# Altium footprint library alexsb.PCBLIB: 444 footprints (part 23 of 28)
Each footprint in its own frame and in the unit in brackets; x right, y up, seen from the top. Pads: shape width x height; smd on the part's side, far side on the other; paste and mask are expansions set on the pad; w line width, h text height; cw(c..) or ccw(c..) is an arc to the next point about the centre after c.
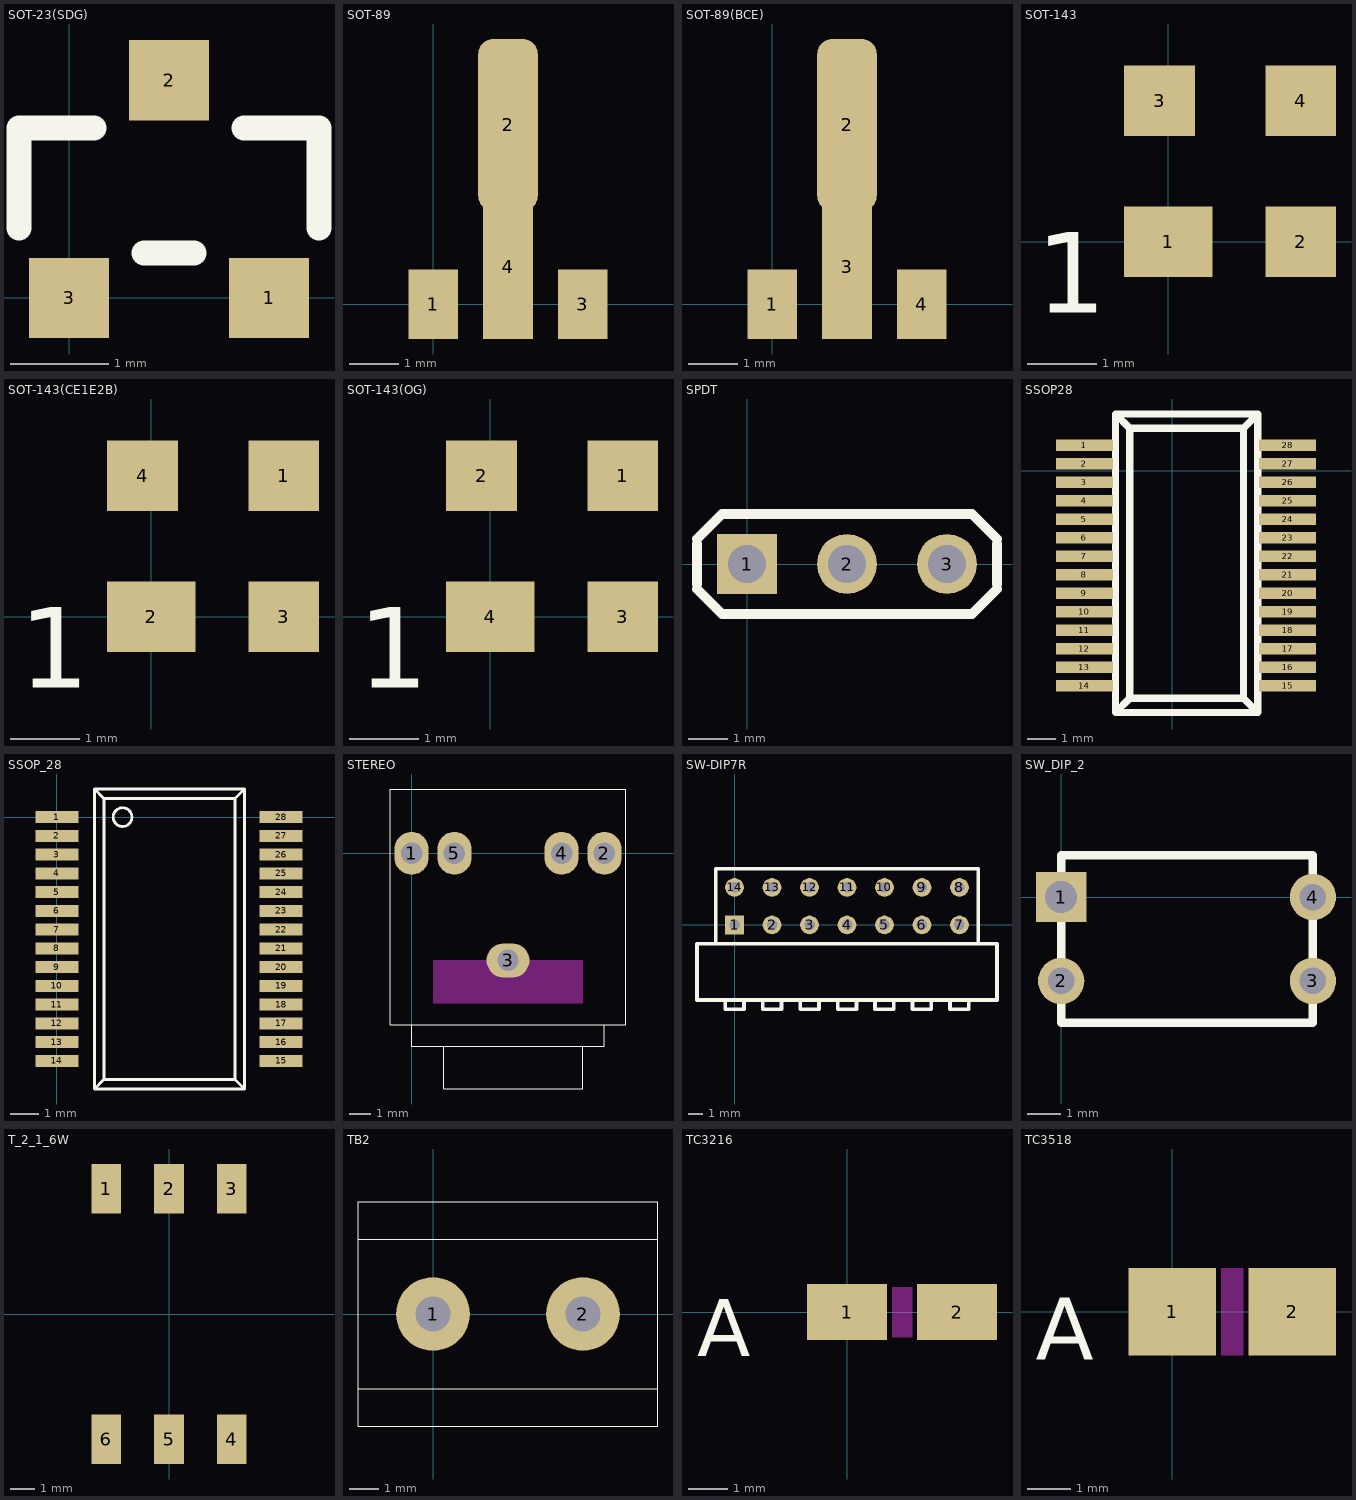
[diagram p22: the footprints below, top view; thin cyan lines are the x and y axes]

## SOT-23(SDG) [mil]
pads (3):
  rect 32x32 smd: 1(80,0) 2(40,87) 3(0,0)
Top Overlay:
  lines w10: -20,28 -20,68 10,68 ; 30,18 50,18 ; 70,68 100,68 100,28

## SOT-89 [mil]
pads (4):
  rect 40x56 smd: 1(0,0) 3(120,0)
  rrect50% 48x138 smd: 2(60,144)
  rect 40x116 smd: 4(60,30)

## SOT-89(BCE) [mil]
pads (4):
  rect 40x56 smd: 1(0,0) 4(120,0)
  rrect50% 48x138 smd: 2(60,144)
  rect 40x116 smd: 3(60,30)

## SOT-143 [mil]
pads (4):
  rect 50x40 smd: 1(0,0)
  rect 40x40 smd: 2(75,0) 3(-5,80) 4(75,80)
Top Overlay:
  text "1" at -75,-40 h45.62

## SOT-143(CE1E2B) [mil]
pads (4):
  rect 40x40 smd: 1(75,80) 3(75,0) 4(-5,80)
  rect 50x40 smd: 2(0,0)
Top Overlay:
  text "1" at -75,-40 h45.62

## SOT-143(OG) [mil]
pads (4):
  rect 40x40 smd: 1(75,80) 2(-5,80) 3(75,0)
  rect 50x40 smd: 4(0,0)
Top Overlay:
  text "1" at -75,-40 h45.62

## SPDT [mil]
pads (3):
  rect 60x60 hole 38: 1(0,0)
  round 60 hole 38: 2(100,0) 3(200,0)
Top Overlay:
  lines w10: -50,-25 -25,-50 225,-50 250,-25 ; -50,-20 -50,20 ; -50,25 -25,50 225,50 250,25 ; 250,-20 250,20

## SSOP28 [mm]
pads (28):
  rect 2x0.4 smd: 1(-3.1,0.9) 2(-3.1,0.25) 3(-3.1,-0.4) 4(-3.1,-1.05) 5(-3.1,-1.7) 6(-3.1,-2.35) 7(-3.1,-3) 8(-3.1,-3.65) 9(-3.1,-4.3) 10(-3.1,-4.95) 11(-3.1,-5.6) 12(-3.1,-6.25) 13(-3.1,-6.9) 14(-3.1,-7.55) 15(4.05,-7.55) 16(4.05,-6.9) 17(4.05,-6.25) 18(4.05,-5.6) 19(4.05,-4.95) 20(4.05,-4.3) 21(4.05,-3.65) 22(4.05,-3) 23(4.05,-2.35) 24(4.05,-1.7) 25(4.05,-1.05) 26(4.05,-0.4) 27(4.05,0.25) 28(4.05,0.9)
Top Overlay:
  lines w0.254: -2,-8.5 3,-8.5 ; -2,-8.5 -2,2 ; -2,-8.5 -1.5,-8 ; -2,2 3,2 ; -2,2 -1.5,1.5 ; -1.5,-8 2.5,-8 ; -1.5,-8 -1.5,1.5 ; -1.5,1.5 2.5,1.5 ; 2.5,-8 2.5,1.5 ; 2.5,-8 3,-8.5 ; 2.5,1.5 3,2 ; 3,-8.5 3,2

## SSOP_28 [mm]
pads (28):
  rect 1.5x0.42 smd: 1(0,0) 2(0,-0.65) 3(0,-1.3) 4(0,-1.95) 5(0,-2.6) 6(0,-3.25) 7(0,-3.9) 8(0,-4.55) 9(0,-5.2) 10(0,-5.85) 11(0,-6.5) 12(0,-7.15) 13(0,-7.8) 14(0,-8.45) 15(7.77,-8.45) 16(7.77,-7.8) 17(7.77,-7.15) 18(7.77,-6.5) 19(7.77,-5.85) 20(7.77,-5.2) 21(7.77,-4.55) 22(7.77,-3.9) 23(7.77,-3.25) 24(7.77,-2.6) 25(7.77,-1.95) 26(7.77,-1.3) 27(7.77,-0.65) 28(7.77,0)
Top Overlay:
  circle w0.1: c2.275,0 r0.325
  lines w0.1: 1.3,-9.425 6.5,-9.425 ; 1.3,-9.425 1.3,0.975 ; 1.3,-9.425 1.625,-9.1 ; 1.3,0.975 6.5,0.975 ; 1.3,0.975 1.625,0.65 ; 1.625,-9.1 6.175,-9.1 ; 1.625,-9.1 1.625,0.65 ; 1.625,0.65 6.175,0.65 ; 6.175,-9.1 6.175,0.65 ; 6.175,-9.1 6.5,-9.425 ; 6.175,0.65 6.5,0.975 ; 6.5,-9.425 6.5,0.975

## STEREO [mm]
pads (5):
  oval 1.6x2 hole 1: 1(0,0) 2(9,0) 4(7,0) 5(2,0)
  oval 2x1.6 hole 1: 3(4.5,-5)
Top Layer keep-out:
  region: 1,-5 1,-7 8,-7 8,-5
Top Overlay:
  lines w0.025: 0,-8 0,-9 9,-9 9,-8 ; 1.5,-9 1.5,-11 8,-11 8,-9 ; -1,-8 -1,3 10,3 10,-8 -1,-8

## SW-DIP7R [mil]
pads (14):
  rect 50x50 hole 28: 1(0,0)
  round 50 hole 28: 2(100,0) 3(200,0) 4(300,0) 5(400,0) 6(500,0) 7(600,0) 8(600,100) 9(500,100) 10(400,100) 11(300,100) 12(200,100) 13(100,100) 14(0,100)
Top Overlay:
  lines w10: -50,-50 -50,150 650,150 650,-50 ; -25,-200 -25,-225 25,-225 25,-200 ; 75,-200 75,-225 125,-225 125,-200 ; 175,-200 175,-225 225,-225 225,-200 ; 275,-200 275,-225 325,-225 325,-200 ; 375,-200 375,-225 425,-225 425,-200 ; 475,-200 475,-225 525,-225 525,-200 ; 575,-200 575,-225 625,-225 625,-200 ; -100,-200 700,-200 700,-50 -100,-50 -100,-200

## SW_DIP_2 [mm]
pads (4):
  rect 1.524x1.524 hole 0.965: 1(0,0)
  round 1.4 hole 0.8: 2(0,-2.54) 3(7.62,-2.54) 4(7.62,0)
Top Overlay:
  lines w0.254: 0,-3.81 7.62,-3.81 7.62,1.27 0,1.27 0,-3.81

## T_2_1_6W [mm]
pads (6):
  rect 1.2x2 smd: 1(-2.54,5.08) 2(0,5.08) 3(2.54,5.08) 4(2.54,-5.08) 5(0,-5.08) 6(-2.54,-5.08)

## TB2 [mm]
pads (2):
  round 2.5 hole 1.2: 1(0,0) 2(5.08,0)
Top Overlay:
  lines w0.025: -2.54,-2.54 7.62,-2.54 ; -2.54,2.54 7.62,2.54 ; -2.54,-3.81 7.62,-3.81 7.62,3.81 0,3.81 -2.54,3.81 -2.54,-3.81

## TC3216 [mil]
pads (2):
  rect 80x56 smd: 1(0,0) 2(110,0)
Top Overlay:
  text "A" at -150,-44 h56.88
Multi-Layer keep-out:
  region: 65,-25 65,25 45,25 45,-25

## TC3518 [mil]
pads (2):
  rect 80x80 smd: 1(0,0) 2(110,0)
Top Overlay:
  text "A" at -125,-44 h56.88
Multi-Layer keep-out:
  region: 65,-40 65,40 45,40 45,-40